# EAGLE library part WE-RJ45_74980104400 (library 7499511611A_Eagle_WE-RJ45_rev20a)
WE-RJ45 LAN Through Hole Reflow Characteristics RJ45 designed to use for Pin-in-Paste soldering High mechanical stability through THT pins High Temperature LEDs Extra high standoff for a good thermal airflow Power over Ethernet up to 50 W Compliant with standard: IEEE 802.3u, IEEE 802.3ab, IEEE 802.3af, IEEE 802.3at Applications Suitable for industrial temperatures from –40 °C up to +85 °C Compatible to Industrial Ethernet systems like EtherCAT or Profinet Compliant with most IC’s for Ethernet applications such as Microchip, Texas Instruments, Broadcom, Linear Technology Hubs, Routers, Switches, IP cameras, IoT applications <https://katalog.we-online.com/media/images/v2/o137453v209%20Family_WE-RJ45_THR_74980104401.jpg> Details see: https://katalog.we-online.com/en/pbs/WE-LAN-RJ45_THR Updated By Ella Wu 2019-08-14 2019 (C) Wurth Elektronik
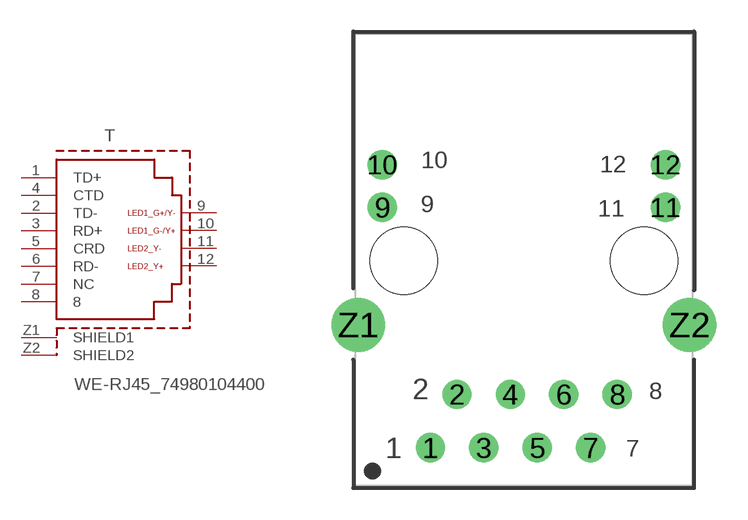
[diagram p26: symbol with the pads of 74980104400; footprint 74980104400]

Designator prefix T

## WE-RJ45_74980104400 (DATA-RATE: 10/100 Base-T; DATASHEET-URL: https://www.we-online.com/catalog/datasheet/74980104400.pdf; LED: green/yellow-green/yellow; MOUNT: THR; PART-NUMBER: 74980104400; POE: non-PoE; PORTS: 1; USB: No)  [74980104400]
1  TD+
2  TD-
3  RD+
4  CTD
5  CRD
6  RD-
7  NC  pas
8  8
9  LED1_G+/Y-
10  LED1_G-/Y+
11  LED2_G+_Y-
12  LED2_G-_Y+
Z1  SHIELD1  pwr
Z2  SHIELD2  pwr

## Footprint 74980104400 (pad centres in mm)
WE-RJ45 LAN Through Hole Reflow 10/100 Base-T
drill 0.89: 1 -4.44,-8.89; 2 -3.18,-6.35; 3 -1.9,-8.89; 4 -0.64,-6.35; 5 0.64,-8.89; 6 1.9,-6.35; 7 3.18,-8.89; 8 4.44,-6.35; 9 -6.725,2.54; 10 -6.725,4.57; 11 6.725,2.54; 12 6.725,4.57
drill 1.7: Z1 -7.875,-3.05; Z2 7.875,-3.05
hole 3.2 at -5.715,0
hole 3.2 at 5.715,0